# Altium schematic symbol library EBWA-04-A.SchLib: 1 symbol
Pins are listed as number, name and electrical type; pins without a type are passive.

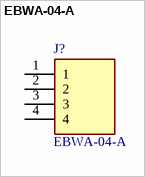
[diagram p0: symbol EBWA-04-A]

## EBWA-04-A
designator J?
4 Position Wire to Board Terminal Block Horizontal with Board 0.138" (3.50mm) Through Hole; Manufacturer_Name: Adam Tech; Geometry.Height: 8.89mm; Mouser Part Number: *; Mouser Price/Stock: *; Manufacturer_Part_Number: EBWA-04-A; Datasheet Link: https://app.adam-tech.com/products/download/data_sheet/204239/ebwa-xx-a-data-sheet.pdf
footprint EBWA04A
pins: 1, 2, 3, 4